# Altium schematic symbol library WE-CBF_0805.SchLib: 41 symbols
Pins are listed as number, name and electrical type; pins without a type are passive.

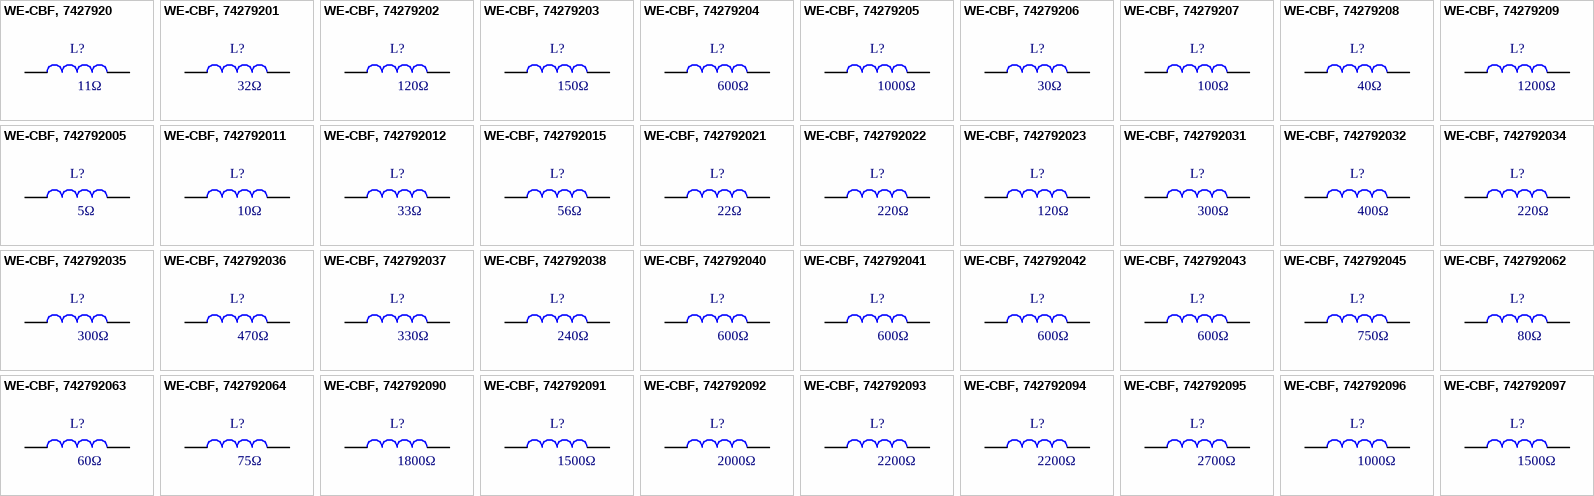
[diagram p0: symbols WE-CBF, 7427920 to WE-CBF, 742792097]

## WE-CBF, 7427920
designator L?, comment 11Ω
WE-CBF SMD EMI Suppression Ferrite Bead, 0805, 11Ω; PartNumber: 7427920; Type: High Speed; PublishedDate: Aug 2016; Publisher: Wurth Elektronik; ComponentLink1Description: Manufacturer; ComponentLink1URL: http://www.we-online.de; ComponentLink2Description: Datasheet; ComponentLink2URL: http://katalog.we-online.de/pbs/datasheet/7427920.pdf; Value: 11Ω; Size: 0805
footprint WE-CBF_0805_High Speed
pins: 1, 2

## WE-CBF, 74279201
designator L?, comment 32Ω
WE-CBF SMD EMI Suppression Ferrite Bead, 0805, 32Ω; PartNumber: 74279201; Type: High Speed; PublishedDate: Aug 2016; Publisher: Wurth Elektronik; ComponentLink1Description: Manufacturer; ComponentLink1URL: http://www.we-online.de; ComponentLink2Description: Datasheet; ComponentLink2URL: http://katalog.we-online.de/pbs/datasheet/74279201.pdf; Value: 32Ω; Size: 0805
footprint WE-CBF_0805_High Speed
pins: 1, 2

## WE-CBF, 74279202
designator L?, comment 120Ω
WE-CBF SMD EMI Suppression Ferrite Bead, 0805, 120Ω; PartNumber: 74279202; Type: High Speed; PublishedDate: Aug 2016; Publisher: Wurth Elektronik; ComponentLink1Description: Manufacturer; ComponentLink1URL: http://www.we-online.de; ComponentLink2Description: Datasheet; ComponentLink2URL: http://katalog.we-online.de/pbs/datasheet/74279202.pdf; Value: 120Ω; Size: 0805
footprint WE-CBF_0805_High Speed
pins: 1, 2

## WE-CBF, 74279203
designator L?, comment 150Ω
WE-CBF SMD EMI Suppression Ferrite Bead, 0805, 150Ω; PartNumber: 74279203; Type: High Speed; PublishedDate: Aug 2016; Publisher: Wurth Elektronik; ComponentLink1Description: Manufacturer; ComponentLink1URL: http://www.we-online.de; ComponentLink2Description: Datasheet; ComponentLink2URL: http://katalog.we-online.de/pbs/datasheet/74279203.pdf; Value: 150Ω; Size: 0805
footprint WE-CBF_0805_High Speed
pins: 1, 2

## WE-CBF, 74279204
designator L?, comment 600Ω
WE-CBF SMD EMI Suppression Ferrite Bead, 0805, 600Ω; PartNumber: 74279204; Type: Wide Band; PublishedDate: Aug 2016; Publisher: Wurth Elektronik; ComponentLink1Description: Manufacturer; ComponentLink1URL: http://www.we-online.de; ComponentLink2Description: Datasheet; ComponentLink2URL: http://katalog.we-online.de/pbs/datasheet/74279204.pdf; Value: 600Ω; Size: 0805
footprint WE-CBF_0805_Wide Band
pins: 1, 2

## WE-CBF, 74279205
designator L?, comment 1000Ω
WE-CBF SMD EMI Suppression Ferrite Bead, 0805, 1000Ω; PartNumber: 74279205; Type: Wide Band; PublishedDate: Aug 2016; Publisher: Wurth Elektronik; ComponentLink1Description: Manufacturer; ComponentLink1URL: http://www.we-online.de; ComponentLink2Description: Datasheet; ComponentLink2URL: http://katalog.we-online.de/pbs/datasheet/74279205.pdf; Value: 1000Ω; Size: 0805
footprint WE-CBF_0805_Wide Band
pins: 1, 2

## WE-CBF, 74279206
designator L?, comment 30Ω
WE-CBF SMD EMI Suppression Ferrite Bead, 0805, 30Ω; PartNumber: 74279206; Type: High Current; PublishedDate: Aug 2016; Publisher: Wurth Elektronik; ComponentLink1Description: Manufacturer; ComponentLink1URL: http://www.we-online.de; ComponentLink2Description: Datasheet; ComponentLink2URL: http://katalog.we-online.de/pbs/datasheet/74279206.pdf; Value: 30Ω; Size: 0805
footprint WE-CBF_0805_High Current
pins: 1, 2

## WE-CBF, 74279207
designator L?, comment 100Ω
WE-CBF SMD EMI Suppression Ferrite Bead, 0805, 100Ω; PartNumber: 74279207; Type: High Current; PublishedDate: Aug 2016; Publisher: Wurth Elektronik; ComponentLink1Description: Manufacturer; ComponentLink1URL: http://www.we-online.de; ComponentLink2Description: Datasheet; ComponentLink2URL: http://katalog.we-online.de/pbs/datasheet/74279207.pdf; Value: 100Ω; Size: 0805
footprint WE-CBF_0805_High Current
pins: 1, 2

## WE-CBF, 74279208
designator L?, comment 40Ω
WE-CBF SMD EMI Suppression Ferrite Bead, 0805, 40Ω; PartNumber: 74279208; Type: High Speed; PublishedDate: Aug 2016; Publisher: Wurth Elektronik; ComponentLink1Description: Manufacturer; ComponentLink1URL: http://www.we-online.de; ComponentLink2Description: Datasheet; ComponentLink2URL: http://katalog.we-online.de/pbs/datasheet/74279208.pdf; Value: 40Ω; Size: 0805
footprint WE-CBF_0805_High Speed
pins: 1, 2

## WE-CBF, 74279209
designator L?, comment 1200Ω
WE-CBF SMD EMI Suppression Ferrite Bead, 0805, 1200Ω; PartNumber: 74279209; Type: Wide Band; PublishedDate: Aug 2016; Publisher: Wurth Elektronik; ComponentLink1Description: Manufacturer; ComponentLink1URL: http://www.we-online.de; ComponentLink2Description: Datasheet; ComponentLink2URL: http://katalog.we-online.de/pbs/datasheet/74279209.pdf; Value: 1200Ω; Size: 0805
footprint WE-CBF_0805_Wide Band
pins: 1, 2

## WE-CBF, 742792005
designator L?, comment 5Ω
WE-CBF SMD EMI Suppression Ferrite Bead, 0805, 5Ω; PartNumber: 742792005; Type: High Speed; PublishedDate: Aug 2016; Publisher: Wurth Elektronik; ComponentLink1Description: Manufacturer; ComponentLink1URL: http://www.we-online.de; ComponentLink2Description: Datasheet; ComponentLink2URL: http://katalog.we-online.de/pbs/datasheet/742792005.pdf; Value: 5Ω; Size: 0805
footprint WE-CBF_0805_High Speed
pins: 1, 2

## WE-CBF, 742792011
designator L?, comment 10Ω
WE-CBF SMD EMI Suppression Ferrite Bead, 0805, 10Ω; PartNumber: 742792011; Type: High Current; PublishedDate: Aug 2016; Publisher: Wurth Elektronik; ComponentLink1Description: Manufacturer; ComponentLink1URL: http://www.we-online.de; ComponentLink2Description: Datasheet; ComponentLink2URL: http://katalog.we-online.de/pbs/datasheet/742792011.pdf; Value: 10Ω; Size: 0805
footprint WE-CBF_0805_High Current
pins: 1, 2

## WE-CBF, 742792012
designator L?, comment 33Ω
WE-CBF SMD EMI Suppression Ferrite Bead, 0805, 33Ω; PartNumber: 742792012; Type: High Current; PublishedDate: Aug 2016; Publisher: Wurth Elektronik; ComponentLink1Description: Manufacturer; ComponentLink1URL: http://www.we-online.de; ComponentLink2Description: Datasheet; ComponentLink2URL: http://katalog.we-online.de/pbs/datasheet/742792012.pdf; Value: 33Ω; Size: 0805
footprint WE-CBF_0805_High Current
pins: 1, 2

## WE-CBF, 742792015
designator L?, comment 56Ω
WE-CBF SMD EMI Suppression Ferrite Bead, 0805, 56Ω; PartNumber: 742792015; Type: Wide Band; PublishedDate: Aug 2016; Publisher: Wurth Elektronik; ComponentLink1Description: Manufacturer; ComponentLink1URL: http://www.we-online.de; ComponentLink2Description: Datasheet; ComponentLink2URL: http://katalog.we-online.de/pbs/datasheet/742792015.pdf; Value: 56Ω; Size: 0805
footprint WE-CBF_0805_Wide Band
pins: 1, 2

## WE-CBF, 742792021
designator L?, comment 22Ω
WE-CBF SMD EMI Suppression Ferrite Bead, 0805, 22Ω; PartNumber: 742792021; Type: High Current; PublishedDate: Aug 2016; Publisher: Wurth Elektronik; ComponentLink1Description: Manufacturer; ComponentLink1URL: http://www.we-online.de; ComponentLink2Description: Datasheet; ComponentLink2URL: http://katalog.we-online.de/pbs/datasheet/742792021.pdf; Value: 22Ω; Size: 0805
footprint WE-CBF_0805_High Current
pins: 1, 2

## WE-CBF, 742792022
designator L?, comment 220Ω
WE-CBF SMD EMI Suppression Ferrite Bead, 0805, 220Ω; PartNumber: 742792022; Type: High Current; PublishedDate: Aug 2016; Publisher: Wurth Elektronik; ComponentLink1Description: Manufacturer; ComponentLink1URL: http://www.we-online.de; ComponentLink2Description: Datasheet; ComponentLink2URL: http://katalog.we-online.de/pbs/datasheet/742792022.pdf; Value: 220Ω; Size: 0805
footprint WE-CBF_0805_High Current
pins: 1, 2

## WE-CBF, 742792023
designator L?, comment 120Ω
WE-CBF SMD EMI Suppression Ferrite Bead, 0805, 120Ω; PartNumber: 742792023; Type: High Current; PublishedDate: Aug 2016; Publisher: Wurth Elektronik; ComponentLink1Description: Manufacturer; ComponentLink1URL: http://www.we-online.de; ComponentLink2Description: Datasheet; ComponentLink2URL: http://katalog.we-online.de/pbs/datasheet/742792023.pdf; Value: 120Ω; Size: 0805
footprint WE-CBF_0805_High Current
pins: 1, 2

## WE-CBF, 742792031
designator L?, comment 300Ω
WE-CBF SMD EMI Suppression Ferrite Bead, 0805, 300Ω; PartNumber: 742792031; Type: High Current; PublishedDate: Aug 2016; Publisher: Wurth Elektronik; ComponentLink1Description: Manufacturer; ComponentLink1URL: http://www.we-online.de; ComponentLink2Description: Datasheet; ComponentLink2URL: http://katalog.we-online.de/pbs/datasheet/742792031.pdf; Value: 300Ω; Size: 0805
footprint WE-CBF_0805_High Current
pins: 1, 2

## WE-CBF, 742792032
designator L?, comment 400Ω
WE-CBF SMD EMI Suppression Ferrite Bead, 0805, 400Ω; PartNumber: 742792032; Type: Wide Band; PublishedDate: Aug 2016; Publisher: Wurth Elektronik; ComponentLink1Description: Manufacturer; ComponentLink1URL: http://www.we-online.de; ComponentLink2Description: Datasheet; ComponentLink2URL: http://katalog.we-online.de/pbs/datasheet/742792032.pdf; Value: 400Ω; Size: 0805
footprint WE-CBF_0805_Wide Band
pins: 1, 2

## WE-CBF, 742792034
designator L?, comment 220Ω
WE-CBF SMD EMI Suppression Ferrite Bead, 0805, 220Ω; PartNumber: 742792034; Type: High Speed; PublishedDate: Aug 2016; Publisher: Wurth Elektronik; ComponentLink1Description: Manufacturer; ComponentLink1URL: http://www.we-online.de; ComponentLink2Description: Datasheet; ComponentLink2URL: http://katalog.we-online.de/pbs/datasheet/742792034.pdf; Value: 220Ω; Size: 0805
footprint WE-CBF_0805_High Speed
pins: 1, 2

## WE-CBF, 742792035
designator L?, comment 300Ω
WE-CBF SMD EMI Suppression Ferrite Bead, 0805, 300Ω; PartNumber: 742792035; Type: High Speed; PublishedDate: Aug 2016; Publisher: Wurth Elektronik; ComponentLink1Description: Manufacturer; ComponentLink1URL: http://www.we-online.de; ComponentLink2Description: Datasheet; ComponentLink2URL: http://katalog.we-online.de/pbs/datasheet/742792035.pdf; Value: 300Ω; Size: 0805
footprint WE-CBF_0805_High Speed
pins: 1, 2

## WE-CBF, 742792036
designator L?, comment 470Ω
WE-CBF SMD EMI Suppression Ferrite Bead, 0805, 470Ω; PartNumber: 742792036; Type: Wide Band; PublishedDate: Aug 2016; Publisher: Wurth Elektronik; ComponentLink1Description: Manufacturer; ComponentLink1URL: http://www.we-online.de; ComponentLink2Description: Datasheet; ComponentLink2URL: http://katalog.we-online.de/pbs/datasheet/742792036.pdf; Value: 470Ω; Size: 0805
footprint WE-CBF_0805_Wide Band
pins: 1, 2

## WE-CBF, 742792037
designator L?, comment 330Ω
WE-CBF SMD EMI Suppression Ferrite Bead, 0805, 330Ω; PartNumber: 742792037; Type: High Current; PublishedDate: Aug 2016; Publisher: Wurth Elektronik; ComponentLink1Description: Manufacturer; ComponentLink1URL: http://www.we-online.de; ComponentLink2Description: Datasheet; ComponentLink2URL: http://katalog.we-online.de/pbs/datasheet/742792037.pdf; Value: 330Ω; Size: 0805
footprint WE-CBF_0805_High Current
pins: 1, 2

## WE-CBF, 742792038
designator L?, comment 240Ω
WE-CBF SMD EMI Suppression Ferrite Bead, 0805, 240Ω; PartNumber: 742792038; Type: Wide Band; PublishedDate: Aug 2016; Publisher: Wurth Elektronik; ComponentLink1Description: Manufacturer; ComponentLink1URL: http://www.we-online.de; ComponentLink2Description: Datasheet; ComponentLink2URL: http://katalog.we-online.de/pbs/datasheet/742792038.pdf; Value: 240Ω; Size: 0805
footprint WE-CBF_0805_Wide Band
pins: 1, 2

## WE-CBF, 742792040
designator L?, comment 600Ω
WE-CBF SMD EMI Suppression Ferrite Bead, 0805, 600Ω; PartNumber: 742792040; Type: High Current; PublishedDate: Aug 2016; Publisher: Wurth Elektronik; ComponentLink1Description: Manufacturer; ComponentLink1URL: http://www.we-online.de; ComponentLink2Description: Datasheet; ComponentLink2URL: http://katalog.we-online.de/pbs/datasheet/742792040.pdf; Value: 600Ω; Size: 0805
footprint WE-CBF_0805_High Current
pins: 1, 2

## WE-CBF, 742792041
designator L?, comment 600Ω
WE-CBF SMD EMI Suppression Ferrite Bead, 0805, 600Ω; PartNumber: 742792041; Type: Wide Band; PublishedDate: Aug 2016; Publisher: Wurth Elektronik; ComponentLink1Description: Manufacturer; ComponentLink1URL: http://www.we-online.de; ComponentLink2Description: Datasheet; ComponentLink2URL: http://katalog.we-online.de/pbs/datasheet/742792041.pdf; Value: 600Ω; Size: 0805
footprint WE-CBF_0805_Wide Band
pins: 1, 2

## WE-CBF, 742792042
designator L?, comment 600Ω
WE-CBF SMD EMI Suppression Ferrite Bead, 0805, 600Ω; PartNumber: 742792042; Type: High Speed; PublishedDate: Aug 2016; Publisher: Wurth Elektronik; ComponentLink1Description: Manufacturer; ComponentLink1URL: http://www.we-online.de; ComponentLink2Description: Datasheet; ComponentLink2URL: http://katalog.we-online.de/pbs/datasheet/742792042.pdf; Value: 600Ω; Size: 0805
footprint WE-CBF_0805_High Speed
pins: 1, 2

## WE-CBF, 742792043
designator L?, comment 600Ω
WE-CBF SMD EMI Suppression Ferrite Bead, 0805, 600Ω; PartNumber: 742792043; Type: High Speed; PublishedDate: Aug 2016; Publisher: Wurth Elektronik; ComponentLink1Description: Manufacturer; ComponentLink1URL: http://www.we-online.de; ComponentLink2Description: Datasheet; ComponentLink2URL: http://katalog.we-online.de/pbs/datasheet/742792043.pdf; Value: 600Ω; Size: 0805
footprint WE-CBF_0805_High Speed
pins: 1, 2

## WE-CBF, 742792045
designator L?, comment 750Ω
WE-CBF SMD EMI Suppression Ferrite Bead, 0805, 750Ω; PartNumber: 742792045; Type: High Speed; PublishedDate: Aug 2016; Publisher: Wurth Elektronik; ComponentLink1Description: Manufacturer; ComponentLink1URL: http://www.we-online.de; ComponentLink2Description: Datasheet; ComponentLink2URL: http://katalog.we-online.de/pbs/datasheet/742792045.pdf; Value: 750Ω; Size: 0805
footprint WE-CBF_0805_High Speed
pins: 1, 2

## WE-CBF, 742792062
designator L?, comment 80Ω
WE-CBF SMD EMI Suppression Ferrite Bead, 0805, 80Ω; PartNumber: 742792062; Type: Wide Band; PublishedDate: Aug 2016; Publisher: Wurth Elektronik; ComponentLink1Description: Manufacturer; ComponentLink1URL: http://www.we-online.de; ComponentLink2Description: Datasheet; ComponentLink2URL: http://katalog.we-online.de/pbs/datasheet/742792062.pdf; Value: 80Ω; Size: 0805
footprint WE-CBF_0805_Wide Band
pins: 1, 2

## WE-CBF, 742792063
designator L?, comment 60Ω
WE-CBF SMD EMI Suppression Ferrite Bead, 0805, 60Ω; PartNumber: 742792063; Type: High Current; PublishedDate: Aug 2016; Publisher: Wurth Elektronik; ComponentLink1Description: Manufacturer; ComponentLink1URL: http://www.we-online.de; ComponentLink2Description: Datasheet; ComponentLink2URL: http://katalog.we-online.de/pbs/datasheet/742792063.pdf; Value: 60Ω; Size: 0805
footprint WE-CBF_0805_High Current
pins: 1, 2

## WE-CBF, 742792064
designator L?, comment 75Ω
WE-CBF SMD EMI Suppression Ferrite Bead, 0805, 75Ω; PartNumber: 742792064; Type: High Speed; PublishedDate: Aug 2016; Publisher: Wurth Elektronik; ComponentLink1Description: Manufacturer; ComponentLink1URL: http://www.we-online.de; ComponentLink2Description: Datasheet; ComponentLink2URL: http://katalog.we-online.de/pbs/datasheet/742792064.pdf; Value: 75Ω; Size: 0805
footprint WE-CBF_0805_High Speed
pins: 1, 2

## WE-CBF, 742792090
designator L?, comment 1800Ω
WE-CBF SMD EMI Suppression Ferrite Bead, 0805, 1800Ω; PartNumber: 742792090; Type: Wide Band; PublishedDate: Aug 2016; Publisher: Wurth Elektronik; ComponentLink1Description: Manufacturer; ComponentLink1URL: http://www.we-online.de; ComponentLink2Description: Datasheet; ComponentLink2URL: http://katalog.we-online.de/pbs/datasheet/742792090.pdf; Value: 1800Ω; Size: 0805
footprint WE-CBF_0805_Wide Band
pins: 1, 2

## WE-CBF, 742792091
designator L?, comment 1500Ω
WE-CBF SMD EMI Suppression Ferrite Bead, 0805, 1500Ω; PartNumber: 742792091; Type: Wide Band; PublishedDate: Aug 2016; Publisher: Wurth Elektronik; ComponentLink1Description: Manufacturer; ComponentLink1URL: http://www.we-online.de; ComponentLink2Description: Datasheet; ComponentLink2URL: http://katalog.we-online.de/pbs/datasheet/742792091.pdf; Value: 1500Ω; Size: 0805
footprint WE-CBF_0805_Wide Band
pins: 1, 2

## WE-CBF, 742792092
designator L?, comment 2000Ω
WE-CBF SMD EMI Suppression Ferrite Bead, 0805, 2000Ω; PartNumber: 742792092; Type: Wide Band; PublishedDate: Aug 2016; Publisher: Wurth Elektronik; ComponentLink1Description: Manufacturer; ComponentLink1URL: http://www.we-online.de; ComponentLink2Description: Datasheet; ComponentLink2URL: http://katalog.we-online.de/pbs/datasheet/742792092.pdf; Value: 2000Ω; Size: 0805
footprint WE-CBF_0805_Wide Band
pins: 1, 2

## WE-CBF, 742792093
designator L?, comment 2200Ω
WE-CBF SMD EMI Suppression Ferrite Bead, 0805, 2200Ω; PartNumber: 742792093; Type: Wide Band; PublishedDate: Aug 2016; Publisher: Wurth Elektronik; ComponentLink1Description: Manufacturer; ComponentLink1URL: http://www.we-online.de; ComponentLink2Description: Datasheet; ComponentLink2URL: http://katalog.we-online.de/pbs/datasheet/742792093.pdf; Value: 2200Ω; Size: 0805
footprint WE-CBF_0805_Wide Band
pins: 1, 2

## WE-CBF, 742792094
designator L?, comment 2200Ω
WE-CBF SMD EMI Suppression Ferrite Bead, 0805, 2200Ω; PartNumber: 742792094; Type: Wide Band; PublishedDate: Aug 2016; Publisher: Wurth Elektronik; ComponentLink1Description: Manufacturer; ComponentLink1URL: http://www.we-online.de; ComponentLink2Description: Datasheet; ComponentLink2URL: http://katalog.we-online.de/pbs/datasheet/742792094.pdf; Value: 2200Ω; Size: 0805
footprint WE-CBF_0805_Wide Band
pins: 1, 2

## WE-CBF, 742792095
designator L?, comment 2700Ω
WE-CBF SMD EMI Suppression Ferrite Bead, 0805, 2700Ω; PartNumber: 742792095; Type: Wide Band; PublishedDate: Aug 2016; Publisher: Wurth Elektronik; ComponentLink1Description: Manufacturer; ComponentLink1URL: http://www.we-online.de; ComponentLink2Description: Datasheet; ComponentLink2URL: http://katalog.we-online.de/pbs/datasheet/742792095.pdf; Value: 2700Ω; Size: 0805
footprint WE-CBF_0805_Wide Band
pins: 1, 2

## WE-CBF, 742792096
designator L?, comment 1000Ω
WE-CBF SMD EMI Suppression Ferrite Bead, 0805, 1000Ω; PartNumber: 742792096; Type: High Current; PublishedDate: Aug 2016; Publisher: Wurth Elektronik; ComponentLink1Description: Manufacturer; ComponentLink1URL: http://www.we-online.de; ComponentLink2Description: Datasheet; ComponentLink2URL: http://katalog.we-online.de/pbs/datasheet/742792096.pdf; Value: 1000Ω; Size: 0805
footprint WE-CBF_0805_High Current
pins: 1, 2

## WE-CBF, 742792097
designator L?, comment 1500Ω
WE-CBF SMD EMI Suppression Ferrite Bead, 0805, 1500Ω; PartNumber: 742792097; Type: High Current; PublishedDate: Aug 2016; Publisher: Wurth Elektronik; ComponentLink1Description: Manufacturer; ComponentLink1URL: http://www.we-online.de; ComponentLink2Description: Datasheet; ComponentLink2URL: http://katalog.we-online.de/pbs/datasheet/742792097.pdf; Value: 1500Ω; Size: 0805
footprint WE-CBF_0805_High Current
pins: 1, 2

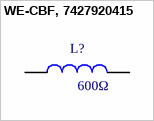
[diagram p1: symbol WE-CBF, 7427920415]

## WE-CBF, 7427920415
designator L?, comment 600Ω
WE-CBF SMD EMI Suppression Ferrite Bead, 0805, 600Ω; PartNumber: 7427920415; Type: Wide Band; PublishedDate: Aug 2016; Publisher: Wurth Elektronik; ComponentLink1Description: Manufacturer; ComponentLink1URL: http://www.we-online.de; ComponentLink2Description: Datasheet; ComponentLink2URL: http://katalog.we-online.de/pbs/datasheet/7427920415.pdf; Value: 600Ω; Size: 0805
footprint WE-CBF_0805_Wide Band
pins: 1, 2